# Altium footprint library VQFN-16P-300X300.PcbLib: 1 footprints
Each footprint in its own frame and in the unit in brackets; x right, y up, seen from the top. Pads: shape width x height; smd on the part's side, far side on the other; paste and mask are expansions set on the pad; w line width, h text height; cw(c..) or ccw(c..) is an arc to the next point about the centre after c.
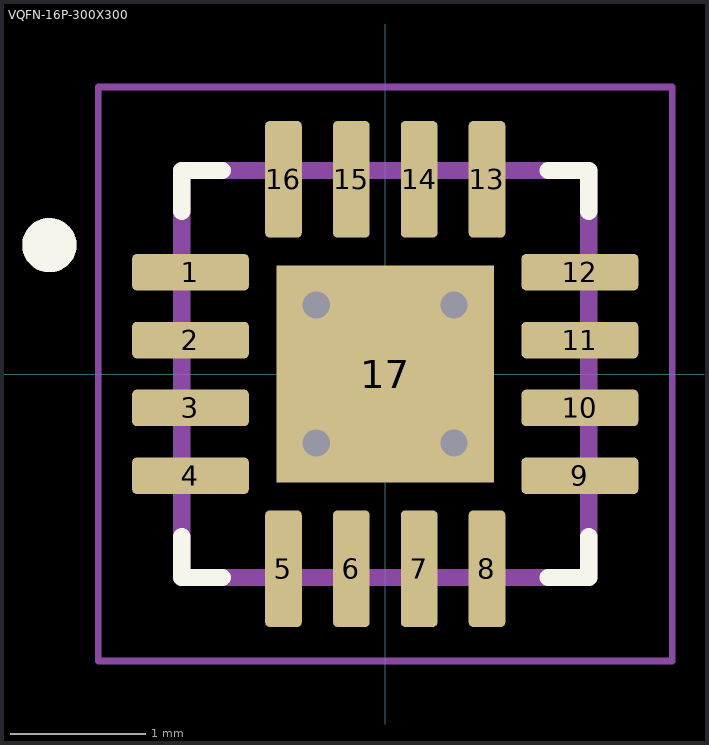
[diagram p0: the footprint, top view; thin cyan lines are the x and y axes]

## VQFN-16P-300X300 [mm]
height 1
pads (17):
  rrect25% 0.86x0.27 smd mask+0.051: 1(-1.435,0.75) 2(-1.435,0.25) 3(-1.435,-0.25) 4(-1.435,-0.75) 9(1.435,-0.75) 10(1.435,-0.25) 11(1.435,0.25) 12(1.435,0.75)
  rrect25% 0.27x0.86 smd mask+0.051: 5(-0.75,-1.435) 6(-0.25,-1.435) 7(0.25,-1.435) 8(0.75,-1.435) 13(0.75,1.435) 14(0.25,1.435) 15(-0.25,1.435) 16(-0.75,1.435)
  rect 1.6x1.6 smd paste-2 mask+0.051: 17(0,0)
via -0.508,0.508 diameter 0.4 hole 0.2
via -0.508,-0.508 diameter 0.4 hole 0.2
via 0.508,-0.508 diameter 0.4 hole 0.2
via 0.508,0.508 diameter 0.4 hole 0.2
Top Overlay:
  circle w0.2: c-2.475,0.95 r0.1
  lines w0.127: -1.5,-1.2 -1.5,-1.5 -1.2,-1.5 ; -1.5,1.2 -1.5,1.5 -1.2,1.5 ; 1.2,-1.5 1.5,-1.5 1.5,-1.2 ; 1.2,1.5 1.5,1.5 1.5,1.2
Top Paste:
  region: 0.506,-0.506 -0.506,-0.506 -0.506,0.506 0.506,0.506
Mechanical 13:
  circle w0.2: c-2.475,0.95 r0.1
  lines w0.127: -1.5,-1.5 -1.5,1.5 1.5,1.5 1.5,-1.5 -1.5,-1.5
Mechanical 15:
  lines w0.05: -2.115,-2.115 -2.115,2.115 2.115,2.115 2.115,-2.115 -2.115,-2.115
  lines w0.076: -0.254,0 0,0 ; 0,-0.254 0,0 ; 0,0.254 0,0 ; 0.254,0 0,0
3D body "step_temp.STEP": height 1, standoff 0, extent -1.5,-1.5 1.5,1.5